# EAGLE library part BLUETOOTH (library daGloane)
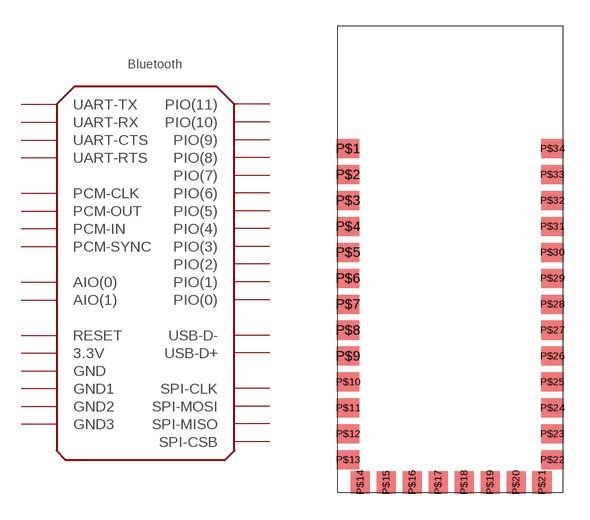
[diagram p7: symbol with the pads of BLUETOOTH; footprint BLUETOOTH]

Designator prefix -

## BLUETOOTH  [BLUETOOTH]
P$1  UART-TX  out
P$2  UART-RX  in
P$3  UART-CTS  in
P$4  UART-RTS  out
P$5  PCM-CLK
P$6  PCM-OUT  out
P$7  PCM-IN  in
P$8  PCM-SYNC
P$9  AIO(0)
P$10  AIO(1)
P$11  RESET  in
P$12  3.3V  pwr
P$13  GND  pwr
P$14  GND1  pwr
P$15  USB-D-
P$16  SPI-CSB  in
P$17  SPI-MOSI  in
P$18  SPI-MISO  out
P$19  SPI-CLK  in
P$20  USB-D+
P$21  GND2  pwr
P$22  GND3  pwr
P$23  PIO(0)
P$24  PIO(1)
P$25  PIO(2)
P$26  PIO(3)
P$27  PIO(4)
P$28  PIO(5)
P$29  PIO(6)
P$30  PIO(7)
P$31  PIO(8)
P$32  PIO(9)
P$33  PIO(10)
P$34  PIO(11)

## Footprint BLUETOOTH (pad centres in mm)
smd 1.3 x 1.1: P$1 -5.75,4.33; P$2 -5.75,2.83; P$3 -5.75,1.33; P$4 -5.75,-0.17; P$5 -5.75,-1.67; P$6 -5.75,-3.17; P$7 -5.75,-4.67; P$8 -5.75,-6.17; P$9 -5.75,-7.67; P$10 -5.75,-9.17; P$11 -5.75,-10.67; P$12 -5.75,-12.17; P$13 -5.75,-13.67; P$22 6.05,-13.67; P$23 6.05,-12.17; P$24 6.05,-10.67; P$25 6.05,-9.17; P$26 6.05,-7.67; P$27 6.05,-6.17; P$28 6.05,-4.67; P$29 6.05,-3.17; P$30 6.05,-1.67; P$31 6.05,-0.17; P$32 6.05,1.33; P$33 6.05,2.83; P$34 6.05,4.33
smd 1.1 x 1.3: P$14 -5.05,-14.97; P$15 -3.55,-14.97; P$16 -2.05,-14.97; P$17 -0.55,-14.97; P$18 0.95,-14.97; P$19 2.45,-14.97; P$20 3.95,-14.97; P$21 5.45,-14.97